# Altium schematic symbol library Memory SDRAM DDR2.SchLib: 5 symbols
Pins are listed as number, name and electrical type; pins without a type are passive.

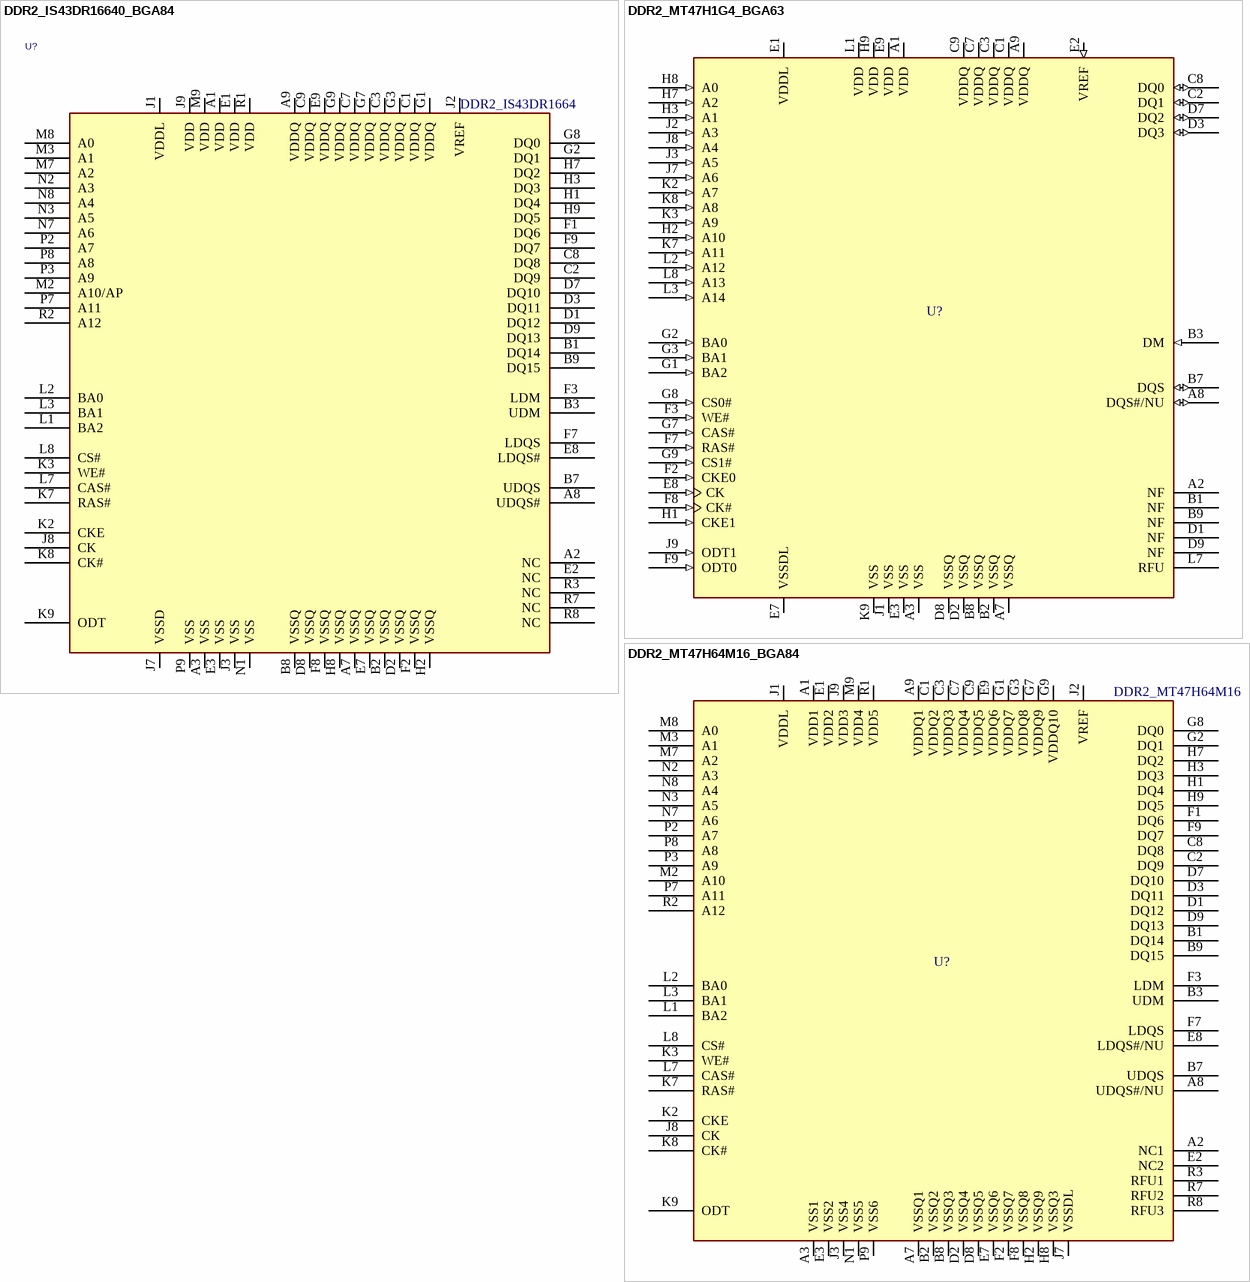
[diagram p0: symbols DDR2_IS43DR16640_BGA84 to DDR2_MT47H64M16_BGA84]

## DDR2_IS43DR16640_BGA84
designator U?, comment DDR2_IS43DR1664
DDR2 SDRAM, 1Gb (64M X16), FBGA-84; MANF: ISSI; DESC: DESCRIPTION; MANF_P#: IS43DR16640B-25DBL; PARAM2: 1.8V; ASSEMBLY: ASSEMBLY; PARAM: PARAM; PRICE: PRICE; VALUE: DDR2_IS43DR1664
footprint BGA80_84_12X8 (DDR BGA 84 BALL 12.5X8.0mm)
pins: A1 VDD (power), A2 NC, A3 VSS (power), A7 VSSQ (power), A8 UDQS#, A9 VDDQ (power), B1 DQ14, B2 VSSQ (power), B3 UDM, B7 UDQS, B8 VSSQ (power), B9 DQ15, C1 VDDQ (power), C2 DQ9, C3 VDDQ (power), C7 VDDQ (power), C8 DQ8, C9 VDDQ (power), D1 DQ12, D2 VSSQ (power), D3 DQ11, D7 DQ10, D8 VSSQ (power), D9 DQ13, E1 VDD (power), E2 NC, E3 VSS (power), E7 VSSQ (power), E8 LDQS#, E9 VDDQ (power), F1 DQ6, F2 VSSQ (power), F3 LDM, F7 LDQS, F8 VSSQ (power), F9 DQ7, G1 VDDQ (power), G2 DQ1, G3 VDDQ (power), G7 VDDQ (power), G8 DQ0, G9 VDDQ (power), H1 DQ4, H2 VSSQ (power), H3 DQ3, H7 DQ2, H8 VSSQ (power), H9 DQ5, J1 VDDL (power), J2 VREF (power), J3 VSS (power), J7 VSSD (power), J8 CK, J9 VDD (power), K2 CKE, K3 WE#, K7 RAS#, K8 CK#, K9 ODT, L1 BA2, L2 BA0, L3 BA1, L7 CAS#, L8 CS#, M2 A10/AP, M3 A1, M7 A2, M8 A0, M9 VDD (power), N1 VSS (power), N2 A3, N3 A5, N7 A6, N8 A4, P2 A7, P3 A9, P7 A11, P8 A8, P9 VSS (power), R1 VDD (power), R2 A12, R3 NC, R7 NC, R8 NC

## DDR2_MT47H1G4_BGA63
designator U?
DDR2 SDRAM, 4Gb (1Gb X4), DDR2-800 (400MHz), ,2.5ns, 1.8V, FBGA-63; DESC: 4Gb, (1Gb X4), DDR2-800 (400MHz), CL=5, 2.5ns, 1.8V; MANF: Micron; MANF_P#: MT47H1G4WTR-25E; PARAM: 4Gb, (1Gb X4), DDR2-800 (400MHz); VALUE: DDR2_MT47H1G4; PARAM2: 1.8V
footprint BGA80_63_9X11 (Footprint not found)
pins: A1 VDD (power) "Power supply: 1.8V +/-0.1V.", A2 NF "No function: These balls are no function on the x4 configuration", A3 VSS (power) "Ground.", A7 VSSQ (power) "DQ ground: Isolated on the device for improved noise immunity", A8 DQS#/NU (io) "Data strobe: Output with read data, input with write data for source synchronous operation. Edge-aligned with read data, center-aligned with write data. DQS# is only used when differential data strobe mode is enabled via the (See Datasheet)", A9 VDDQ (power) "DQ power supply: 1.8V +/-0.1V. Isolated on the device for improved noise immunity", B1 NF "No function: These balls are no function on the x4 configuration.", B2 VSSQ (power) "DQ ground: Isolated on the device for improved noise immunity.", B3 DM (in) "Input data mask: DM is an input mask signal for write data. Input data is masked when DM is sampled HIGH along with that input data during a WRITE access. DM is sampled on both edges of DQS. Although DM balls are input-only, (See Datasheet)", B7 DQS (io) "Data strobe: Output with read data, input with write data for source synchronous operation. Edge-aligned with read data, center-aligned with write data. DQS# is only used when differential data strobe mode is enabled via the (See Datasheet)", B8 VSSQ (power) "DQ ground: Isolated on the device for improved noise immunity", B9 NF "No function: These balls are no function on the x4 configuration.", C1 VDDQ (power) "DQ power supply: 1.8V +/-0.1V. Isolated on the device for improved noise immunity", C2 DQ1 (io) "Data input/output: Bidirectional data bus for x4 configuration.", C3 VDDQ (power) "DQ power supply: 1.8V +/-0.1V. Isolated on the device for improved noise immunity", C7 VDDQ (power) "DQ power supply: 1.8V +/-0.1V. Isolated on the device for improved noise immunity.", C8 DQ0 (io) "Data input/output: Bidirectional data bus for x4 configuration.", C9 VDDQ (power) "DQ power supply: 1.8V +/-0.1V. Isolated on the device for improved noise immunity.", D1 NF "No function: These balls are no function on the x4 configuration", D2 VSSQ (power) "DQ ground: Isolated on the device for improved noise immunity", D3 DQ3 (io) "Data input/output: Bidirectional data bus for x4 configuration.", D7 DQ2 (io) "Data input/output: Bidirectional data bus for x4 configuration", D8 VSSQ (power) "DQ ground: Isolated on the device for improved noise immunity", D9 NF "No function: These balls are no function on the x4 configuration", E1 VDDL (power) "DLL power supply: 1.8V +/-0.1V", E2 VREF (in) "SSTL_18 reference voltage (VDDQ/2).", E3 VSS (power) "Ground.", E7 VSSDL (power) "DLL ground: Isolated on the device from VSS and VSSQ", E8 CK (in) "Clock:CK and CK# are differential clock inputs. All address and control input signals are sampled on the crossing of the positive edge of CK and negative edge of CK#. Output data (DQ and DQS/DQS#) is referenced to the (See Datasheet)", E9 VDD (power) "Power supply: 1.8V +/-0.1V.", F2 CKE0 (in) "Clock enable: CKE (registered HIGH) activates and CKE (registered LOW) deactivates clocking circuitry on the DDR2 SDRAM. The specific circuitry that is enabled/disabled is dependent on the DDR SDRAM configuration and (See Datasheet)", F3 WE# (in) "Command inputs: RAS#, CAS#, and WE# (along with CS#) define the command being entered", F7 RAS# (in) "Command inputs: RAS#, CAS#, and WE# (along with CS#) define the command being entered", F8 CK# (in) "Clock: CK and CK# are differential clock inputs. All address and control input signals are sampled on the crossing of the positive edge of CK and negative edge of CK#. Output data (DQ and DQS/DQS#) is referenced to the (See Datasheet)", F9 ODT0 (in) "On-die termination:ODT(registered HIGH) enables termination resistance internal tothe DDRSDRAM. When enabled, ODT is only applied to each of the following balls:DQ[7:0], DQS, DQS#, and DM. The ODT input will be ignored if (See Datasheet)", G1 BA2 (in) "Bank address inputs: BA[2:0] define to which bank an ACTIVATE, READ, WRITE, or PRECHARGE command is being applied. BA[2:0] define which mode register including MR,EMR, EMR(2), and EMR(3) is loaded during the LOAD MODE command", G2 BA0 (in) "Bank address inputs: BA[2:0] define to which bank an ACTIVATE, READ, WRITE, or PRECHARGE command is being applied. BA[2:0] define which mode register including MR,EMR, EMR(2), and EMR(3) is loaded during the LOAD MODE command", G3 BA1 (in) "Bank address inputs: BA[2:0] define to which bank an ACTIVATE, READ, WRITE, or PRECHARGE command is being applied. BA[2:0] define which mode register including MR,EMR, EMR(2), and EMR(3) is loaded during the LOAD MODE command", G7 CAS# (in) "Command inputs: RAS#, CAS#, and WE# (along with CS#) define the command being entered.", G8 CS0# (in) "Chip select: CS# enables (registered LOW) and disables (registered HIGH) the command decoder. All commands are masked when CS# is registered HIGH. CS# provides for external bank selection on systems with multiple ranks. CS# (See Datasheet)", G9 CS1# (in) "Chip select: CS# enables (registered LOW) and disables (registered HIGH) the command decoder. All commands are masked when CS# is registered HIGH. CS# provides for external bank selection on systems with multiple ranks. CS# (See Datasheet)", H1 CKE1 (in) "Clock enable: CKE (registered HIGH) activates and CKE (registered LOW) deactivates clocking circuitry on the DDR2 SDRAM. The specific circuitry that is enabled/disabled is dependent on the DDR SDRAM configuration and (See Datasheet)", H2 A10 (in) "Address inputs: Provide the row address for ACTIVATE commands, and the column address and auto precharge bit (A10) for READ/WRITE commands, to select one location out of the memory array in the respective bank. A10 sampled (See Datasheet)", H3 A1 (in) "Address inputs: Provide the row address for ACTIVATE commands, and the column address and auto precharge bit (A10) for READ/WRITE commands, to select one location out of the memory array in the respective bank. A10 sampled (See Datasheet)", H7 A2 (in) "Address inputs: Provide the row address for ACTIVATE commands, and the column address and auto precharge bit (A10) for READ/WRITE commands, to select one location out of the memory array in the respective bank. A10 sampled (See Datasheet)", H8 A0 (in) "Address inputs: Provide the row address for ACTIVATE commands, and the column address and auto precharge bit (A10) for READ/WRITE commands, to select one location out of the memory array in the respective bank. A10 sampled (See Datasheet)", H9 VDD (power) "Power supply: 1.8V +/-0.1V", J1 VSS (power) "Ground", J2 A3 (in) "Address inputs: Provide the row address for ACTIVATE commands, and the column address and auto precharge bit (A10) for READ/WRITE commands, to select one location out of the memory array in the respective bank. A10 sampled (See Datasheet)", J3 A5 (in) "Address inputs: Provide the row address for ACTIVATE commands, and the column address and auto precharge bit (A10) for READ/WRITE commands, to select one location out of the memory array in the respective bank. A10 sampled (See Datasheet)", J7 A6 (in) "Address inputs: Provide the row address for ACTIVATE commands, and the column address and auto precharge bit (A10) for READ/WRITE commands, to select one location out of the memory array in the respective bank. A10 sampled (See Datasheet)", J8 A4 (in) "Address inputs: Provide the row address for ACTIVATE commands, and the column address and auto precharge bit (A10) for READ/WRITE commands, to select one location out of the memory array in the respective bank. A10 sampled (See Datasheet)", J9 ODT1 (in) "On-die termination: ODT (registered HIGH) enables termination resistance internal to the DDR2 SDRAM. When enabled, ODT is only applied to each of the following balls: DQ[7:0], DQS, DQS#, and DM. The ODT input will be ignored (See Datasheet)", K2 A7 (in) "Address inputs: Provide the row address for ACTIVATE commands, and the column address and auto precharge bit (A10) for READ/WRITE commands, to select one location out of the memory array in the respective bank. A10 sampled (See Datasheet)", K3 A9 (in) "Address inputs: Provide the row address for ACTIVATE commands, and the column address and auto precharge bit (A10) for READ/WRITE commands, to select one location out of the memory array in the respective bank. A10 sampled (See Datasheet)", K7 A11 (in) "Address inputs: Provide the row address for ACTIVATE commands, and the column address and auto precharge bit (A10) for READ/WRITE commands, to select one location out of the memory array in the respective bank. A10 sampled (See Datasheet)", K8 A8 (in) "Address inputs: Provide the row address for ACTIVATE commands, and the column address and auto precharge bit (A10) for READ/WRITE commands, to select one location out of the memory array in the respective bank. A10 sampled (See Datasheet)", K9 VSS (power) "Ground", L1 VDD (power) "Power supply: 1.8V +/-0.1V.", L2 A12 (in) "Address inputs: Provide the row address for ACTIVATE commands, and the column address and auto precharge bit (A10) for READ/WRITE commands, to select one location out of the memory array in the respective bank. A10 sampled (See Datasheet)", L3 A14 (in) "Address inputs: Provide the row address for ACTIVATE commands, and the column address and auto precharge bit (A10) for READ/WRITE commands, to select one location out of the memory array in the respective bank. A10 sampled (See Datasheet)", L7 RFU "Reserved for future use", L8 A13 (in) "Address inputs: Provide the row address for ACTIVATE commands, and the column address and auto precharge bit (A10) for READ/WRITE commands, to select one location out of the memory array in the respective bank. A10 sampled (See Datasheet)"

## DDR2_MT47H64M16_BGA84
designator U?, comment DDR2_MT47H64M16
DDR2 SDRAM, 1Gb (64M X16), FBGA84; MANF_P#: MT47H64M16HR-3IT:H; MANF: Micron; PARAM2: 1.8V; Value: DDR2_MT47H64M16
footprint BGA80_84_12X8 (DDR BGA 84 BALL 12.5X8.0mm)
pins: A1 VDD1, A2 NC1, A3 VSS1, A7 VSSQ1, A8 UDQS#/NU, A9 VDDQ1, B1 DQ14, B2 VSSQ2, B3 UDM, B7 UDQS, B8 VSSQ3, B9 DQ15, C1 VDDQ2, C2 DQ9, C3 VDDQ3, C7 VDDQ4, C8 DQ8, C9 VDDQ5, D1 DQ12, D2 VSSQ4, D3 DQ11, D7 DQ10, D8 VSSQ5, D9 DQ13, E1 VDD2, E2 NC2, E3 VSS2, E7 VSSQ6, E8 LDQS#/NU, E9 VDDQ6, F1 DQ6, F2 VSSQ7, F3 LDM, F7 LDQS, F8 VSSQ8, F9 DQ7, G1 VDDQ7, G2 DQ1, G3 VDDQ8, G7 VDDQ9, G8 DQ0, G9 VDDQ10, H1 DQ4, H2 VSSQ9, H3 DQ3, H7 DQ2, H8 VSSQ3, H9 DQ5, J1 VDDL, J2 VREF, J3 VSS4, J7 VSSDL, J8 CK, J9 VDD3, K2 CKE, K3 WE#, K7 RAS#, K8 CK#, K9 ODT, L1 BA2, L2 BA0, L3 BA1, L7 CAS#, L8 CS#, M2 A10, M3 A1, M7 A2, M8 A0, M9 VDD4, N1 VSS5, N2 A3, N3 A5, N7 A6, N8 A4, P2 A7, P3 A9, P7 A11, P8 A8, P9 VSS6, R1 VDD5, R2 A12, R3 RFU1, R7 RFU2, R8 RFU3

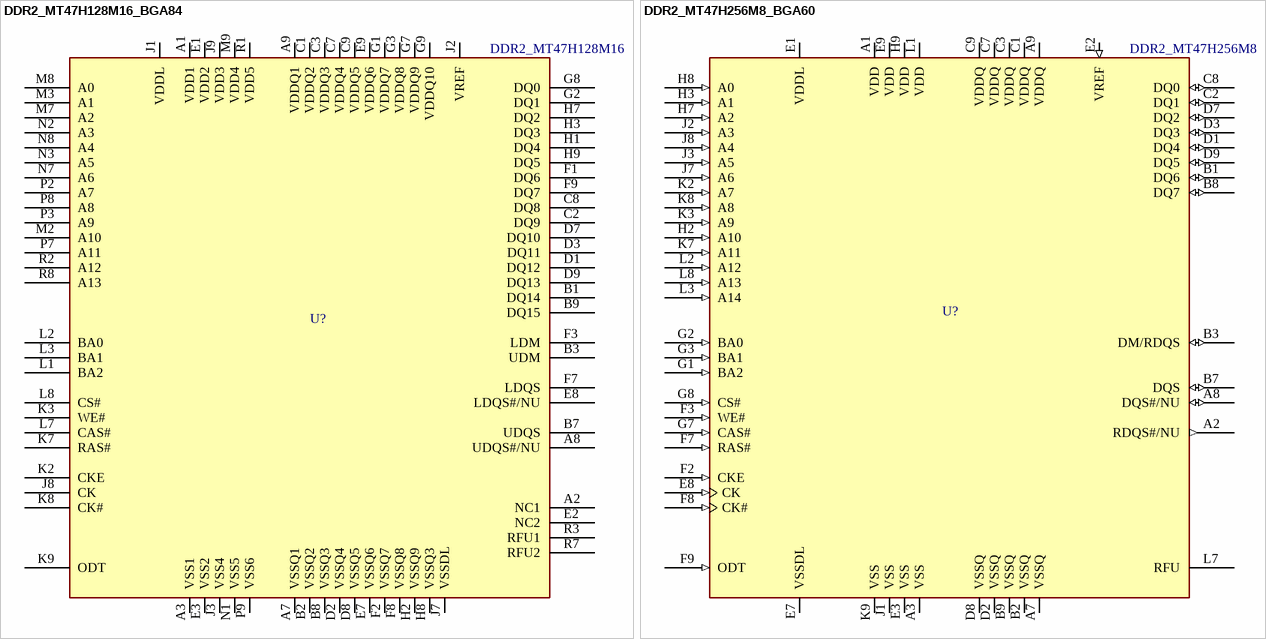
[diagram p1: symbols DDR2_MT47H128M16_BGA84 to DDR2_MT47H256M8_BGA60]

## DDR2_MT47H128M16_BGA84
designator U?, comment DDR2_MT47H128M16
DDR2 SDRAM, 2Gb (128M X16), DDR2-800 (400MHz), ,2.5ns, 1.8V, FBGA84; MANF_P#: MT47H128M16RT-25E IT; MANF: Micron; PARAM2: 1.8V; PARAM: 2Gb (128M X16), DDR2-800 (400MHz); Value: DDR2_MT47H128M16
footprint BGA80_84_12X8 (DDR BGA 84 BALL 12.5X8.0mm)
pins: A1 VDD1, A2 NC1, A3 VSS1, A7 VSSQ1, A8 UDQS#/NU, A9 VDDQ1, B1 DQ14, B2 VSSQ2, B3 UDM, B7 UDQS, B8 VSSQ3, B9 DQ15, C1 VDDQ2, C2 DQ9, C3 VDDQ3, C7 VDDQ4, C8 DQ8, C9 VDDQ5, D1 DQ12, D2 VSSQ4, D3 DQ11, D7 DQ10, D8 VSSQ5, D9 DQ13, E1 VDD2, E2 NC2, E3 VSS2, E7 VSSQ6, E8 LDQS#/NU, E9 VDDQ6, F1 DQ6, F2 VSSQ7, F3 LDM, F7 LDQS, F8 VSSQ8, F9 DQ7, G1 VDDQ7, G2 DQ1, G3 VDDQ8, G7 VDDQ9, G8 DQ0, G9 VDDQ10, H1 DQ4, H2 VSSQ9, H3 DQ3, H7 DQ2, H8 VSSQ3, H9 DQ5, J1 VDDL, J2 VREF, J3 VSS4, J7 VSSDL, J8 CK, J9 VDD3, K2 CKE, K3 WE#, K7 RAS#, K8 CK#, K9 ODT, L1 BA2, L2 BA0, L3 BA1, L7 CAS#, L8 CS#, M2 A10, M3 A1, M7 A2, M8 A0, M9 VDD4, N1 VSS5, N2 A3, N3 A5, N7 A6, N8 A4, P2 A7, P3 A9, P7 A11, P8 A8, P9 VSS6, R1 VDD5, R2 A12, R3 RFU1, R7 RFU2, R8 A13 "Address inputs: Provide the row address for ACTIVE commands, and the column address and auto precharge bit (A10) for READ/WRITE commands, to select one location out of the memory array in the respective bank. A10 sampled (See Datasheet)"

## DDR2_MT47H256M8_BGA60
designator U?, comment DDR2_MT47H256M8
DDR2 SDRAM, 2Gb (256Mb x 8), DDR2-1066 (533MHz), 1.875ns, FBGA-60; PARAM2: 1.8V; MANF: Micron; MANF_P#: MT47H256M8EB-187E; PARAM: 2Gb (256Mb x 8); VALUE: DDR2_MT47H256M8
footprint BGA80_60_9X11 (BGA, 60-Balls, Body 11.5x9mm, Pitch 0.8mm)
pins: A1 VDD (power) "Power supply: 1.8V +/-0.1V.", A2 RDQS#/NU (out) "Redundant data strobe: For x8 only. RDQS is enabled/disabled via the LOAD MODE command to the extended mode register (EMR). When RDQS is enabled, RDQS is output with read data only and is ignored during write data. When RDQS (See Datasheet)", A3 VSS (power) "Ground.", A7 VSSQ (power) "DQ ground: Isolated on the device for improved noise immunity.", A8 DQS#/NU (io) "Data strobe: Output with read data, input with write data for source synchronous operation. Edge-aligned with read data, center-aligned with write data. DQS# is only used when differential data strobe mode is enabled via the (See Datasheet)", A9 VDDQ (power) "DQ power supply: 1.8V +/-0.1V. Isolated on the device for improved noise immunity.", B1 DQ6 (io) "Data input/output: Bidirectional data bus for 256 Meg x 8.", B2 VSSQ (power) "DQ ground: Isolated on the device for improved noise immunity.", B3 DM/RDQS (io) "Input data mask: DM is an input mask signal for write data. Input data is masked when DM is concurrently sampled HIGH during a WRITE access. DM is sampled on both edges of DQS. Although DM balls are input-only, the DM (See Datasheet)", B7 DQS (io) "Data strobe: Output with read data, input with write data for source synchronous operation. Edge-aligned with read data, center-aligned with write data. DQS# is only used when differential data strobe mode is enabled via the (See Datasheet)", B8 DQ7 (io) "Data input/output: Bidirectional data bus for 256 Meg x 8.", B9 VSSQ (power) "DQ ground: Isolated on the device for improved noise immunity.", C1 VDDQ (power) "DQ power supply: 1.8V +/-0.1V. Isolated on the device for improved noise immunity.", C2 DQ1 (io) "Data input/output: Bidirectional data bus for 256 Meg x 8.", C3 VDDQ (power) "DQ power supply: 1.8V +/-0.1V. Isolated on the device for improved noise immunity.", C7 VDDQ (power) "DQ power supply: 1.8V +/-0.1V. Isolated on the device for improved noise immunity.", C8 DQ0 (io) "Data input/output: Bidirectional data bus for 256 Meg x 8.", C9 VDDQ (power) "DQ power supply: 1.8V +/-0.1V. Isolated on the device for improved noise immunity.", D1 DQ4 (io) "Data input/output: Bidirectional data bus for 256 Meg x 8.", D2 VSSQ (power) "DQ ground: Isolated on the device for improved noise immunity.", D3 DQ3 (io) "Data input/output: Bidirectional data bus for 256 Meg x 8.", D7 DQ2 (io) "Data input/output: Bidirectional data bus for 256 Meg x 8.", D8 VSSQ (power) "DQ ground: Isolated on the device for improved noise immunity.", D9 DQ5 (io) "Data input/output: Bidirectional data bus for 256 Meg x 8.", E1 VDDL (power) "DLL power supply: 1.8V +/-0.1V.", E2 VREF (in) "SSTL_18 reference voltage.", E3 VSS (power) "Ground.", E7 VSSDL (power) "DLL ground: Isolated on the device from VSS and VSSQ.", E8 CK (in) "Clock: CK and CK# are differential clock inputs. All address and control input signals are sampled on the crossing of the positive edge of CK and negative edge of CK#. Output data (DQ and DQS/DQS#) is referenced to the (See Datasheet)", E9 VDD (power) "Power supply: 1.8V +/-0.1V.", F2 CKE (in) "Clock enable: CKE (registered HIGH) activates and CKE (registered LOW) deactivates clocking circuitry on the DDR2 SDRAM. The specific circuitry that is enabled/disabled is dependent on the DDR2 SDRAM configuration and (See Datasheet)", F3 WE# (in) "Command inputs: RAS#, CAS#, and WE# (along with CS#) define the command being entered.", F7 RAS# (in) "Command inputs: RAS#, CAS#, and WE# (along with CS#) define the command being entered.", F8 CK# (in) "Clock: CK and CK# are differential clock inputs. All address and control input signals are sampled on the crossing of the positive edge of CK and negative edge of CK#. Output data (DQ and DQS/DQS#) is referenced to the (See Datasheet)", F9 ODT (in) "On-die termination: ODT (registered HIGH) enables termination resistance internal to the DDR2 SDRAM. When enabled, ODT is only applied to each of the following balls: DQ[15:0], LDM, UDM, LDQS, LDQS#, UDQS, and UDQS# for the (See Datasheet)", G1 BA2 (in) "Bank address inputs: BA[2:0] define to which bank an ACTIVE, READ, WRITE, or PRECHARGE command is being applied. BA[2:0] define which mode register, including MR, EMR, EMR(2), and EMR(3), is loaded during the LOAD MODE (See Datasheet)", G2 BA0 (in) "Bank address inputs: BA[2:0] define to which bank an ACTIVE, READ, WRITE, or PRECHARGE command is being applied. BA[2:0] define which mode register, including MR, EMR, EMR(2), and EMR(3), is loaded during the LOAD MODE (See Datasheet)", G3 BA1 (in) "Bank address inputs: BA[2:0] define to which bank an ACTIVE, READ, WRITE, or PRECHARGE command is being applied. BA[2:0] define which mode register, including MR, EMR, EMR(2), and EMR(3), is loaded during the LOAD MODE (See Datasheet)", G7 CAS# (in) "Command inputs: RAS#, CAS#, and WE# (along with CS#) define the command being entered.", G8 CS# (in) "Chip select: CS# enables (registered LOW) and disables (registered HIGH) the command decoder. All commands are masked when CS# is registered high. CS# provides for external bank selection on systems with multiple ranks. CS# (See Datasheet)", H2 A10 (in) "Address inputs: Provide the row address for ACTIVE commands, and the column address and auto precharge bit (A10) for READ/WRITE commands, to select one location out of the memory array in the respective bank. A10 sampled (See Datasheet)", H3 A1 (in) "Address inputs: Provide the row address for ACTIVE commands, and the column address and auto precharge bit (A10) for READ/WRITE commands, to select one location out of the memory array in the respective bank. A10 sampled (See Datasheet)", H7 A2 (in) "Address inputs: Provide the row address for ACTIVE commands, and the column address and auto precharge bit (A10) for READ/WRITE commands, to select one location out of the memory array in the respective bank. A10 sampled (See Datasheet)", H8 A0 (in) "Address inputs: Provide the row address for ACTIVE commands, and the column address and auto precharge bit (A10) for READ/WRITE commands, to select one location out of the memory array in the respective bank. A10 sampled (See Datasheet)", H9 VDD (power) "Power supply: 1.8V +/-0.1V.", J1 VSS (power) "Ground.", J2 A3 (in) "Address inputs: Provide the row address for ACTIVE commands, and the column address and auto precharge bit (A10) for READ/WRITE commands, to select one location out of the memory array in the respective bank. A10 sampled (See Datasheet)", J3 A5 (in) "Address inputs: Provide the row address for ACTIVE commands, and the column address and auto precharge bit (A10) for READ/WRITE commands, to select one location out of the memory array in the respective bank. A10 sampled (See Datasheet)", J7 A6 (in) "Address inputs: Provide the row address for ACTIVE commands, and the column address and auto precharge bit (A10) for READ/WRITE commands, to select one location out of the memory array in the respective bank. A10 sampled (See Datasheet)", J8 A4 (in) "Address inputs: Provide the row address for ACTIVE commands, and the column address and auto precharge bit (A10) for READ/WRITE commands, to select one location out of the memory array in the respective bank. A10 sampled (See Datasheet)", K2 A7 (in) "Address inputs: Provide the row address for ACTIVE commands, and the column address and auto precharge bit (A10) for READ/WRITE commands, to select one location out of the memory array in the respective bank. A10 sampled (See Datasheet)", K3 A9 (in) "Address inputs: Provide the row address for ACTIVE commands, and the column address and auto precharge bit (A10) for READ/WRITE commands, to select one location out of the memory array in the respective bank. A10 sampled (See Datasheet)", K7 A11 (in) "Address inputs: Provide the row address for ACTIVE commands, and the column address and auto precharge bit (A10) for READ/WRITE commands, to select one location out of the memory array in the respective bank. A10 sampled (See Datasheet)", K8 A8 (in) "Address inputs: Provide the row address for ACTIVE commands, and the column address and auto precharge bit (A10) for READ/WRITE commands, to select one location out of the memory array in the respective bank. A10 sampled (See Datasheet)", K9 VSS (power) "Ground.", L1 VDD (power) "Power supply: 1.8V +/-0.1V.", L2 A12 (in) "Address inputs: Provide the row address for ACTIVE commands, and the column address and auto precharge bit (A10) for READ/WRITE commands, to select one location out of the memory array in the respective bank. A10 sampled (See Datasheet)", L3 A14 (in) "Address inputs: Provide the row address for ACTIVE commands, and the column address and auto precharge bit (A10) for READ/WRITE commands, to select one location out of the memory array in the respective bank. A10 sampled (See Datasheet)", L7 RFU "Reserved for future use: Row address bits A14 (R3), A15 (R7) on the x16, and A15 (L7) on the x4/x8.", L8 A13 (in) "Address inputs: Provide the row address for ACTIVE commands, and the column address and auto precharge bit (A10) for READ/WRITE commands, to select one location out of the memory array in the respective bank. A10 sampled (See Datasheet)"